# Altium footprint library PCB - LEADED - SOT - TI SC70-6 DCK.PCBLIB: 1 footprints
Each footprint in its own frame and in the unit in brackets; x right, y up, seen from the top. Pads: shape width x height; smd on the part's side, far side on the other; paste and mask are expansions set on the pad; w line width, h text height; cw(c..) or ccw(c..) is an arc to the next point about the centre after c.
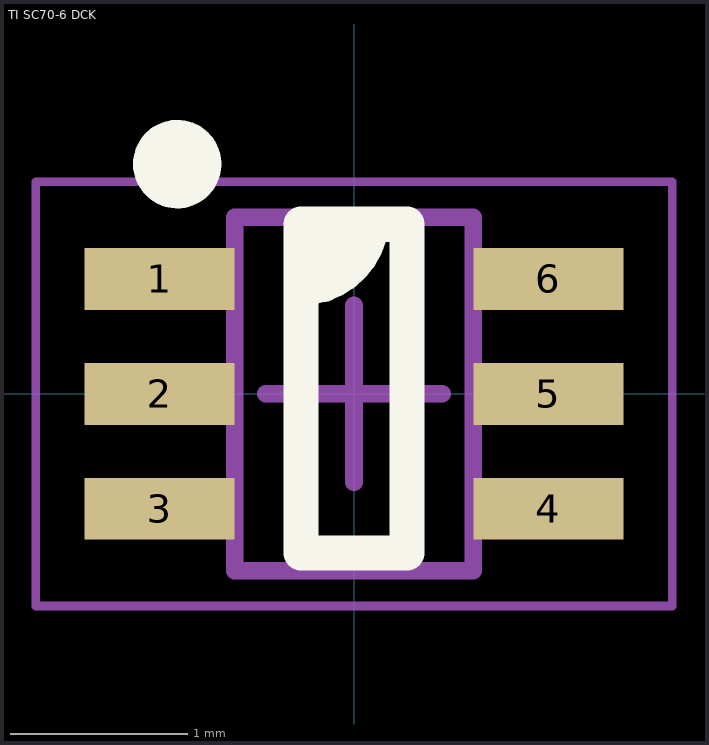
[diagram p0: the footprint, top view; thin cyan lines are the x and y axes]

## TI SC70-6 DCK [mm] "SC70, 6-Leads, Body 2.00x2.10mm, Pitch 0.65mm, IPC Medium Density"
height 1.1
pads (6):
  rect 0.85x0.35 smd: 1(-1.1,0.65) 2(-1.1,0) 3(-1.1,-0.65) 4(1.1,-0.65) 5(1.1,0) 6(1.1,0.65)
Top Overlay:
  circle w0.25: c-1,1.3 r0.125
  region: -0.3,1 -0.3,0.6 -0.22,0.6 -0.073,0.661 0.039,0.773 0.1,0.92 0.1,1
  lines w0.2: -0.3,0.6 ccw(c-0.3,1) 0.098,0.96 ; -0.3,-0.9 0.3,-0.9 0.3,0.96 -0.3,0.96 -0.3,-0.9
Mechanical 13:
  lines w0.1: -0.675,-1 0.675,-1 0.675,1 -0.675,1 -0.675,-1
Mechanical 15:
  lines w0.05: -1.8,-1.2 1.8,-1.2 1.8,1.2 -1.8,1.2 -1.8,-1.2
Mechanical 2 (Mech9):
  lines w0.1: -0.5,0 0.5,0 ; 0,-0.5 0,0.5
3D body "SC-70-6.STEP": height 1.1, standoff 0, extent -1.06,-1 1.061,1